# Altium schematic symbol library IC-LDO.SchLib: 7 symbols
Pins are listed as number, name and electrical type; pins without a type are passive.

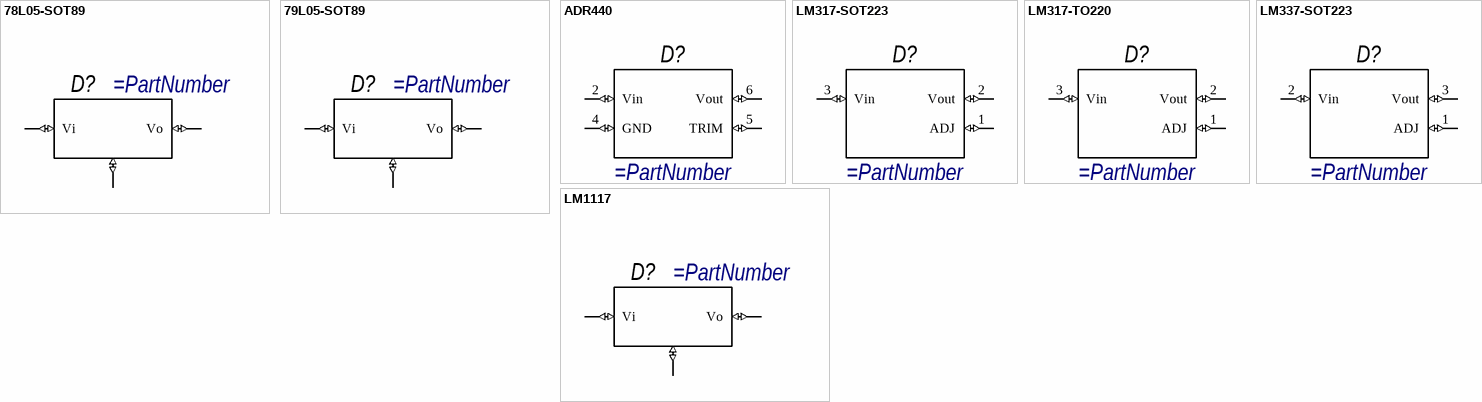
[diagram p0: symbols 78L05-SOT89 to LM1117]

## 78L05-SOT89
designator D?
pins: 1 Vo (io), 2 (io), 3 Vi (io)

## 79L05-SOT89
designator D?
pins: 1 (io), 2 Vi (io), 3 Vo (io)

## ADR440
designator D?
ADR440/ADR441/ADR443/ADR444/ADR445 Ultralow noise voltage reference
pins: 2 Vin (io), 4 GND (io), 5 TRIM (io), 6 Vout (io)

## LM317-SOT223
designator D?
LM317 SOT223
pins: 1 ADJ (io), 2 Vout (io), 3 Vin (io)

## LM317-TO220
designator D?
LM317 TO-220
pins: 1 ADJ (io), 2 Vout (io), 3 Vin (io), 4 Vout (io)

## LM337-SOT223
designator D?
LM337 SOT223
pins: 1 ADJ (io), 2 Vin (io), 3 Vout (io), 4 Vin (io)

## LM1117
designator D?
pins: 1 (io), 2 Vo (io), 3 Vi (io), 4 (io)